# Altium footprint library capacitor.PcbLib: 4 footprints
Each footprint in its own frame and in the unit in brackets; x right, y up, seen from the top. Pads: shape width x height; smd on the part's side, far side on the other; paste and mask are expansions set on the pad; w line width, h text height; cw(c..) or ccw(c..) is an arc to the next point about the centre after c.
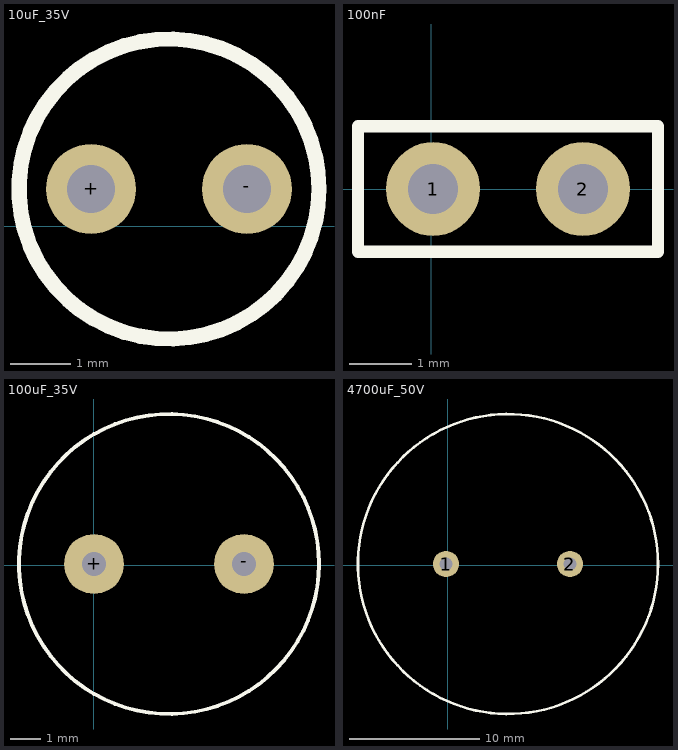
[diagram p0: the footprints below, top view; thin cyan lines are the x and y axes]

## 10uF_35V [mm]
pads (2):
  round 1.5 hole 0.8: +(2.416,0.624) -(5.016,0.624)
Top Overlay:
  circle w0.254: c3.716,0.624 r2.5

## 100nF [mm]
pads (2):
  round 1.5 hole 0.8: 1(0.029,0.005) 2(2.429,0.005)
Top Overlay:
  lines w0.2: -1.171,-0.995 -1.171,1.005 3.629,1.005 3.629,-0.995 -1.171,-0.995
3D body "User Library-Ceramic Capacitor 5x3_75mm.step": height 5.46, standoff -3.5, extent -1.229,-0.995 3.688,1.005

## 100uF_35V [mm]
pads (2):
  round 2 hole 0.8: +(0.014,0.045) -(5.014,0.045)
Top Layer:
  region: 5.535,0.234 5.248,0.547 4.825,0.566 4.512,0.279 4.493,-0.144 4.78,-0.457 5.203,-0.476 5.516,-0.189
Bottom Layer:
  region: 5.535,0.234 5.248,0.547 4.825,0.566 4.512,0.279 4.493,-0.144 4.78,-0.457 5.203,-0.476 5.516,-0.189
Top Overlay:
  circle w0.127: c2.514,0.045 r5
Multi-Layer:
  region: 5.535,0.234 5.248,0.547 4.825,0.566 4.512,0.279 4.493,-0.144 4.78,-0.457 5.203,-0.476 5.516,-0.189
3D body "User Library-Cap electro 10x16x5_0mm.STEP": height 16.53, standoff -3.74, extent -2.503,-4.989 7.547,5.062

## 4700uF_50V [mm]
pads (2):
  round 2 hole 1: 1(-0.113,0.083)
  round 2 / inner round 1.524 / far side round 1.5 hole 1: 2(9.387,0.083)
Top Overlay:
  circle w0.2: c4.637,0.083 r11.5